# EAGLE library part MAX662AESA+T (library MAX662AESA+T)
Switching Voltage Regulators 12V, 30mA Flash Memory Programming Supply Source: Datasheet <http://datasheets.maximintegrated.com/en/ds/MAX662A.pdf>
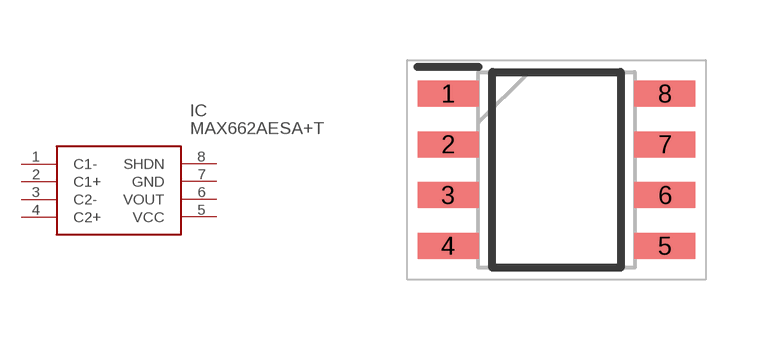
[diagram p0: symbol with the pads of SOIC127P600X175-8N; footprint SOIC127P600X175-8N]

Designator prefix IC

## MAX662AESA+T (Description: Switching Voltage Regulators 12V, 30mA Flash Memory Programming Supply; Height: 1.75mm; Manufacturer_Name: Analog Devices; Manufacturer_Part_Number: MAX662AESA+T; Mouser_Part_Number: 700-MAX662AESAT; Mouser_Price-Stock: https://www.mouser.co.uk/ProductDetail/Analog-Devices-Maxim-Integrated/MAX662AESA%2bT?qs=Mqkh4jHMT8xwCw6RdkV8HQ%3D%3D)  [SOIC127P600X175-8N]
1  C1-
2  C1+
3  C2-
4  C2+
5  VCC
6  VOUT
7  GND
8  SHDN

## Footprint SOIC127P600X175-8N (pad centres in mm)
8 SO
smd 1.525 x 0.65: 1 -2.712,1.905; 2 -2.712,0.635; 3 -2.712,-0.635; 4 -2.712,-1.905; 5 2.712,-1.905; 6 2.712,-0.635; 7 2.712,0.635; 8 2.712,1.905